# EAGLE library part 686112148922 (library Eagle_FPC_CONNECTOR_AND_FFC_CAB (rev18c))
WR-FPC 1mm SMT Horiz. Bot. Contact Hinge type WR-FPC 1mm 12 pins Hinge type SMT Horizontal Bottom Contact ;=>Code : Con_FPC_ZIF_1.00_6861xx148922_686112148922 <http://katalog.we-online.de/media/images/eican/Con_FPC_ZIF_1.00_686110148922_pf2.jpg> Details see: http://katalog.we-online.de/em/datasheet/6861xx148922.pdf Created 2014-10-08, Karrer Zheng 2014 (C) Wurth Elektronik
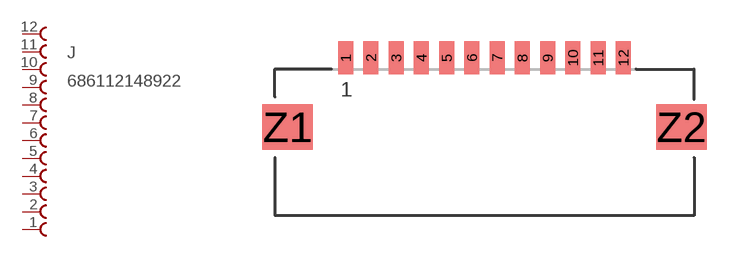
[diagram p93: symbol with the pads of 686112148922; footprint 686112148922]

Designator prefix J

## 686112148922  [686112148922]
1  12  pas
2  11  pas
3  10  pas
4  9  pas
5  8  pas
6  7  pas
7  6  pas
8  5  pas
9  4  pas
10  3  pas
11  2  pas
12  1  pas

## Footprint 686112148922 (pad centres in mm)
WR-FPC 1mm SMT Horiz. Bot. Contact Hinge type WR-FPC 1mm 12pins Hinge type SMT Horizontal Bottom Contact
smd 0.6 x 1.3: 1 -5.5,2.75; 2 -4.5,2.75; 3 -3.5,2.75; 4 -2.5,2.75; 5 -1.5,2.75; 6 -0.5,2.75; 7 0.5,2.75; 8 1.5,2.75; 9 2.5,2.75; 10 3.5,2.75; 11 4.5,2.75; 12 5.5,2.75
smd 2 x 1.8: Z1 -7.8,0; Z2 7.8,0